# Altium schematic symbol library IC_Silicon_Laboratories_CP2102-GMR_eec.SchLib: 1 symbol
Pins are listed as number, name and electrical type; pins without a type are passive.

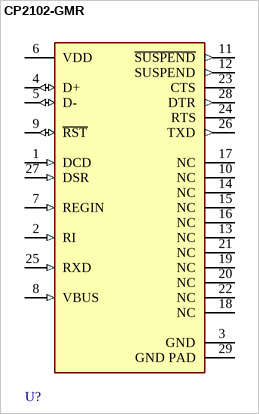
[diagram p0: symbol CP2102-GMR]

## CP2102-GMR
designator U?  (value not drawn)
pins: 1 DCD (in), 2 RI (in), 3 GND, 4 D+ (io), 5 D- (io), 6 VDD (power), 7 REGIN (in), 8 VBUS (in), 9 ~{RST} (io), 10 NC, 11 ~{SUSPEND} (out), 12 SUSPEND (out), 13 NC, 14 NC, 15 NC, 16 NC, 17 NC, 18 NC, 19 NC, 20 NC, 21 NC, 22 NC, 23 CTS, 24 RTS, 25 RXD (in), 26 TXD (out), 27 DSR (in), 28 DTR (out), 29 GND PAD (power)